# EAGLE library part MD-80SM (library con-cuistack)
Mini-DIN - 8 Pin
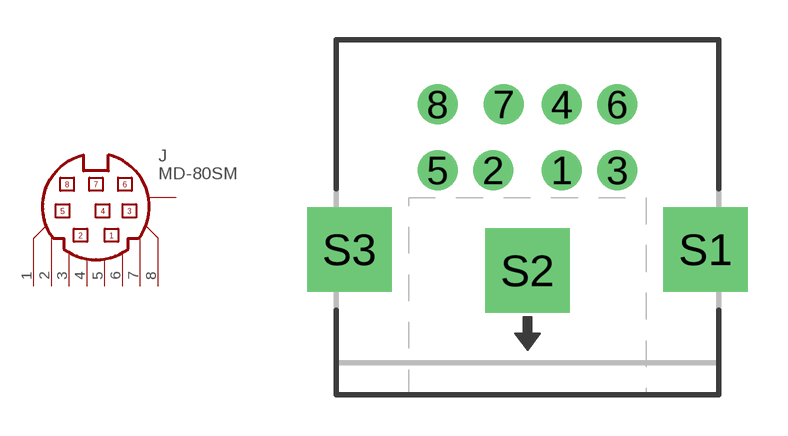
[diagram p3: symbol with the pads of MD-80SM; footprint MD-80SM]

Designator prefix J

## MD-80SM  [MD-80SM]
1  1  pas
2  2  pas
3  3  pas
4  4  pas
5  5  pas
6  6  pas
7  7  pas
8  8  pas
S1  S1  pas
S2  S2  pas
S3  S3  pas

## Footprint MD-80SM (pad centres in mm)
Mini DIN - 8 Pin
drill 1.016: 1 1.3,3.8; 2 -1.3,3.8; 3 3.4,3.8; 4 1.3,6.3; 5 -3.4,3.8; 6 3.4,6.3; 7 -0.9,6.3; 8 -3.4,6.3
drill 2.184 square: S1 6.75,0.8; S2 0,0; S3 -6.75,0.8